# EAGLE library part DM3D-SF (library Conservify)
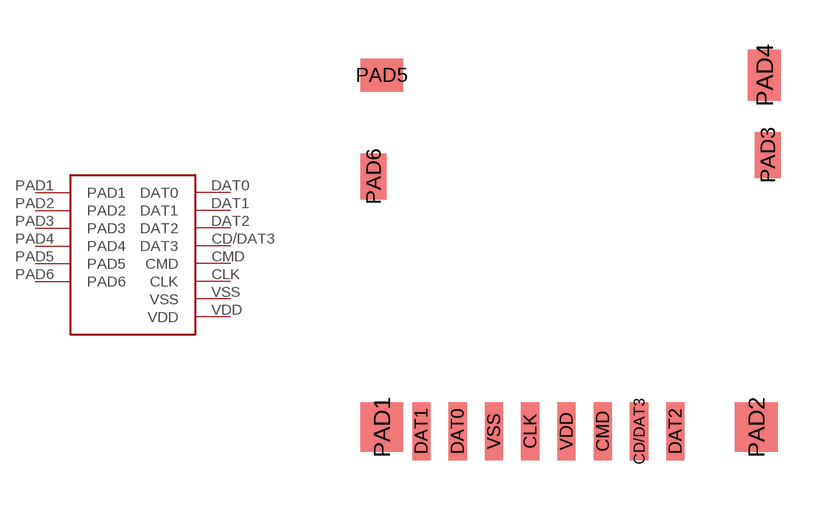
[diagram p0: symbol with the pads of DM3D-SF; footprint DM3D-SF]

Designator prefix -

## DM3D-SF  [DM3D-SF]
CD/DAT3  DAT3
CLK  CLK
CMD  CMD
DAT0  DAT0
DAT1  DAT1
DAT2  DAT2
PAD1  PAD1
PAD2  PAD2
PAD3  PAD3
PAD4  PAD4
PAD5  PAD5
PAD6  PAD6
VDD  VDD
VSS  VSS

## Footprint DM3D-SF (pad centres in mm)
smd 0.55 x 1.75: CD/DAT3 6.6,-0.875; CLK 3.3,-0.875; CMD 5.5,-0.875; DAT0 1.1,-0.875; DAT1 0,-0.875; DAT2 7.7,-0.875; VDD 4.4,-0.875; VSS 2.2,-0.875
smd 1.3 x 1.5: PAD1 -1.2,-0.75; PAD2 10.15,-0.75
smd 0.8 x 1.4: PAD3 10.5,7.5; PAD6 -1.45,6.85
smd 1 x 1.55: PAD4 10.4,9.925
smd 1.3 x 1: PAD5 -1.2,9.925